# Altium footprint library Relay_THT.PcbLib: 78 footprints (part 4 of 5)
Each footprint in its own frame and in the unit in brackets; x right, y up, seen from the top. Pads: shape width x height; smd on the part's side, far side on the other; paste and mask are expansions set on the pad; w line width, h text height; cw(c..) or ccw(c..) is an arc to the next point about the centre after c.
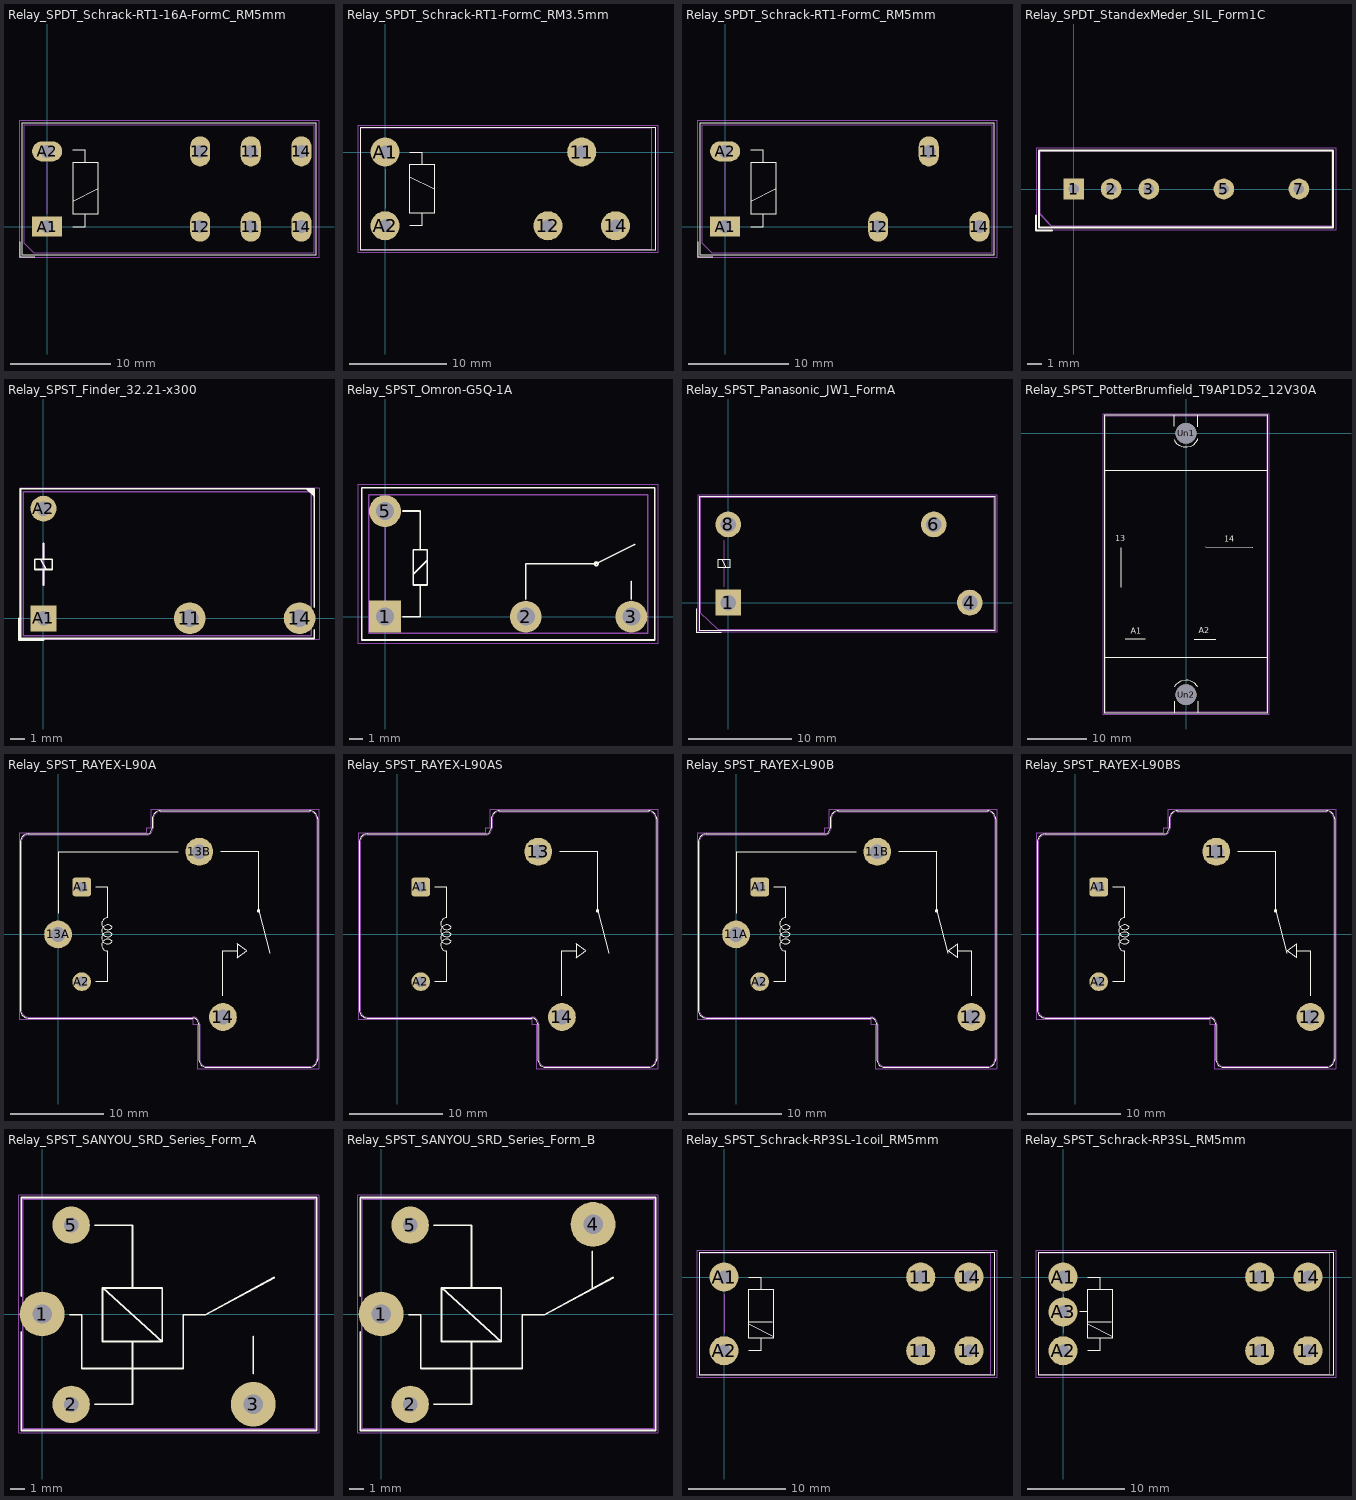
[diagram p3: the footprints below, top view; thin cyan lines are the x and y axes]

## Relay_SPDT_Schrack-RT1-16A-FormC_RM5mm [mm]
pads (8):
  rrect100% 2x3 hole 1.3: 11(20.3,0) 11(20.3,7.5) 12(15.26,0) 12(15.26,7.5) 14(25.34,0) 14(25.34,7.5)
  rect 3x2 hole 1.3: A1(0,0)
  rrect100% 3x2 hole 1.3: A2(0,7.5)
F.SilkS:
  lines w0.1: 2.54,2.54 5.08,3.81
  lines w0.12: -2.75,-1.5 -2.75,-3 -1.25,-3 ; 2.54,0 3.81,0 3.81,1.27 ; 2.54,7.62 3.81,7.62 3.81,6.35 ; 3.81,1.27 5.08,1.27 5.08,6.35 2.54,6.35 2.54,1.27 3.81,1.27 ; -2.55,-2.8 26.85,-2.8 26.85,10.3 -2.55,10.3 -2.55,-2.8
F.CrtYd:
  lines w0.05: -2.8,-3.05 -2.8,10.55 27.1,10.55 27.1,-3.05 -2.8,-3.05
F.Fab:
  lines w0.1: -2.35,-1.6 -1.35,-2.6 26.65,-2.6 26.65,10.1 -2.35,10.1 -2.35,-1.6
  lines w0.12: 0,1.27 0,6.35
  text "'.Designator'" at 8.018,2.97 h1

## Relay_SPDT_Schrack-RT1-FormC_RM3.5mm [mm]
pads (5):
  round 3 hole 1.3: 11(20.32,0) 12(16.82,-7.62) 14(23.82,-7.62) A1(0,0) A2(0,-7.62)
F.SilkS:
  lines w0.12: 2.54,-7.62 3.81,-7.62 3.81,-6.35 ; 2.54,-2.54 5.08,-3.81 ; 2.54,0 3.81,0 3.81,-1.27 ; 3.81,-1.27 2.54,-1.27 2.54,-6.35 5.08,-6.35 5.08,-1.27 3.81,-1.27 ; -2.54,-10.16 27.94,-10.16 27.94,2.54 -2.54,2.54 -2.54,-10.16
F.CrtYd:
  lines w0.05: -2.8,-10.42 28.2,-10.42 28.2,2.78 -2.8,2.78 -2.8,-10.42
F.Fab:
  lines w0.12: 0,-5.8 0,-1.8 ; -2.5,-10.1 -2.5,2.5 27.5,2.5 27.5,-10.1 -2.5,-10.1
  text "'.Designator'" at 8.018,-4.65 h1

## Relay_SPDT_Schrack-RT1-FormC_RM5mm [mm]
pads (5):
  rrect100% 2x3 hole 1.3: 11(20.3,7.5) 12(15.26,0) 14(25.34,0)
  rect 3x2 hole 1.3: A1(0,0)
  rrect100% 3x2 hole 1.3: A2(0,7.5)
F.SilkS:
  lines w0.1: 2.54,2.54 5.08,3.81
  lines w0.12: -2.75,-1.5 -2.75,-3 -1.25,-3 ; 2.54,0 3.81,0 3.81,1.27 ; 2.54,7.62 3.81,7.62 3.81,6.35 ; 3.81,1.27 2.54,1.27 2.54,6.35 5.08,6.35 5.08,1.27 3.81,1.27 ; -2.55,-2.8 26.85,-2.8 26.85,10.3 -2.55,10.3 -2.55,-2.8
F.CrtYd:
  lines w0.05: -2.8,-3.05 27.1,-3.05 27.1,10.55 -2.8,10.55 -2.8,-3.05
F.Fab:
  lines w0.1: -2.35,-1.6 -2.35,10.1 26.65,10.1 26.65,-2.6 -1.35,-2.6 -2.35,-1.6
  lines w0.12: 0,1.27 0,6.35
  text "'.Designator'" at 8.018,2.97 h1

## Relay_SPDT_StandexMeder_SIL_Form1C [mm]
pads (5):
  rect 1.4x1.4 hole 0.7: 1(0,0)
  round 1.4 hole 0.7: 2(2.54,0) 3(5.08,0) 5(10.16,0) 7(15.24,0)
F.SilkS:
  lines w0.12: -2.55,-1.8 -2.55,-2.8 -1.45,-2.8 ; -2.35,-2.6 -2.35,2.6 17.55,2.6 17.55,-2.6 -2.35,-2.6
F.CrtYd:
  lines w0.05: -2.55,-2.8 17.75,-2.8 17.75,2.8 -2.55,2.8 -2.55,-2.8
F.Fab:
  lines w0.12: -2.3,-1.667 -1.5,-2.517 17.5,-2.517 17.5,2.583 -2.3,2.583 -2.3,-1.667
  text "'.Designator'" at 3.703,-0.84 h1

## Relay_SPST_Finder_32.21-x300 [mm]
pads (4):
  round 2.2 hole 1.2: 11(10.16,0) 14(17.78,0)
  rect 1.8x1.8 hole 1: A1(0,0)
  round 1.8 hole 1: A2(0,7.62)
F.SilkS:
  lines w0.12: -1.7,0 -1.7,-1.5 0,-1.5 ; -0.2,4.1 0.2,3.4 ; 0,2.3 0,3.4 ; 0,4.1 0,5.2 ; 18.279,8.996 18.779,8.496 ; 18.379,8.996 18.779,8.596 ; 18.479,8.996 18.779,8.696 ; 18.579,8.996 18.779,8.796 ; 18.679,8.996 18.779,8.896 ; 18.8,-0.8 18.8,-1.4 -1.6,-1.4 -1.6,9 18.8,9 18.8,0.796 ; -0.6,3.4 -0.6,4.1 0.6,4.1 0.6,3.4 -0.6,3.4
F.CrtYd:
  lines w0.05: -1.65,-1.45 -1.65,9.05 19.13,9.05 19.13,-1.45 -1.65,-1.45
F.Fab:
  lines w0.12: 0,2.3 0,5.2 ; -1.4,-1.2 18.6,-1.2 18.6,8.8 -1.4,8.8 -1.4,-1.2
  text "'.Designator'" at 6.153,3.26 h1

## Relay_SPST_Omron-G5Q-1A [mm]
pads (4):
  rect 2.3x2.3 hole 1.3: 1(0,0)
  round 2.3 hole 1.3: 2(10.16,0) 3(17.78,0) 5(0,7.62)
F.SilkS:
  circle w0.12: c15.24,3.81 r0.13
  lines w0.12: 1.27,0 2.54,0 2.54,2.29 ; 1.27,7.62 2.54,7.62 2.54,4.83 ; 2.03,3.05 3.05,4.06 ; 10.16,1.27 10.16,3.81 15.24,3.81 18.03,5.21 ; 17.78,1.27 17.78,2.54 ; 2.54,2.29 2.03,2.29 2.03,4.83 2.54,4.83 ; 2.54,2.29 3.05,2.29 3.05,4.83 2.54,4.83 ; -1.68,-1.69 19.46,-1.69 19.46,9.31 -1.68,9.31 -1.68,-1.69
F.CrtYd:
  lines w0.05: -1.95,-1.95 19.7,-1.95 19.7,9.55 -1.95,9.55 -1.95,-1.95
F.Fab:
  lines w0.1: 0,1 0,6.5 ; -1.18,-1.19 18.96,-1.19 18.96,8.81 -1.18,8.81 -1.18,-1.19
  text "'.Designator'" at 5.553,3.66 h1

## Relay_SPST_Panasonic_JW1_FormA [mm]
pads (4):
  rect 2.5x2.5 hole 1.5: 1(0,0)
  rrect100% 2.5x2.5 hole 1.5: 4(23.5,0) 6(20,7.6) 8(0,7.6)
F.SilkS:
  lines w0.12: -3.04,-0.6 -3.04,-2.94 -0.7,-2.94 ; -0.6,4.15 -0.2,3.45 ; -2.8,-2.7 -2.8,10.3 26,10.3 26,-2.7 -2.8,-2.7 ; -1,3.45 -1,4.15 0.2,4.15 0.2,3.45 -1,3.45
F.CrtYd:
  lines w0.05: -2.95,-2.85 -2.95,10.45 26.15,10.45 26.15,-2.85 -2.95,-2.85
F.Fab:
  lines w0.1: -3.04,-0.6 -3.04,-2.94 -0.7,-2.94 ; -2.7,-1 -2.7,10.2 25.9,10.2 25.9,-2.6 -1,-2.6 ; -0.4,1.55 -0.4,6.05
  lines w0.12: -2.7,-1 -1,-2.6
  text "'.Designator'" at 7.953,2.91 h1

## Relay_SPST_PotterBrumfield_T9AP1D52_12V30A [mm]
pads (2):
  round 3.5 hole 3.5: Un1(0,0) Un2(0,-43.998)
F.SilkS:
  lines w0.12: -13.749,-37.749 13.749,-37.749 ; -13.749,-6.248 13.749,-6.248 ; -11.001,-25.898 -11.001,-19.223 ; -10.201,-34.699 -6.901,-34.674 ; -1.976,-47 -1.976,-45.098 ; -1.976,-42.675 -1.75,-42.324 -1.3,-41.948 -0.851,-41.725 0.076,-41.6 0.376,-41.6 0.8,-41.725 1.45,-42.05 1.826,-42.474 1.976,-42.675 ; -1.976,-1.1 -1.9,-1.374 -1.549,-1.725 -1.125,-2.024 -0.45,-2.248 0.201,-2.273 0.826,-2.174 1.275,-1.923 1.674,-1.524 1.951,-1.123 1.999,-0.95 ; -1.976,1.201 -1.976,3.002 ; 1.425,-34.699 5.001,-34.699 ; 1.951,-45.098 1.976,-46.975 ; 1.976,1.1 1.976,3.002 ; 3.325,-19.2 3.35,-19.2 11.25,-19.223 ; -13.749,-47 13.749,-47 13.749,-21.999 13.749,3.002 -13.749,3.002 -13.749,-47
  text "A1" at -9.291,-33.723 h1
  text "A2" at 2.169,-33.624 h1
  text "14" at 6.452,-18.275 h1
  text "13" at -11.924,-18.173 h1
F.CrtYd:
  lines w0.05: -14,-47.25 -14,3.25 14,3.25 14,-47.25 -14,-47.25
F.Fab:
  lines w0.12: -13.7,-46.9 -13.7,2.9 13.7,2.9 13.7,-46.9 -13.7,-46.9
  text "'.Designator'" at -3.237,-22.671 h0.8

## Relay_SPST_RAYEX-L90A [mm]
pads (5):
  round 3 hole 1.6: 13A(0,0) 13B(15.2,8.9) 14(17.74,-8.9)
  rrect25% 2x2 hole 1.1: A1(2.54,5.1)
  round 2 hole 1.1: A2(2.54,-5.1)
F.SilkS:
  circle w0.12: c21.59,2.54 r0.127
  lines w0.12: 0,2.286 0,8.9 12.954,8.9 ; 4.064,-5.105 5.334,-5.105 5.334,-1.778 cw(c5.334,-1.143) 5.842,-0.762 cw(c5.334,-0.381) 5.842,0 cw(c5.334,0.381) 5.842,0.762 cw(c5.334,1.143) 5.334,1.778 5.334,5.105 4.064,5.105 ; 17.526,8.9 21.59,8.9 21.59,2.54 22.809,-2.032 ; 17.74,-6.604 17.74,-1.778 19.304,-1.778 ; -4.07,-8.14 -4.07,9.94 cw(c-3.2,9.94) -3.2,10.81 9.48,10.81 ccw(c9.48,11.46) 10.13,11.46 10.13,12.44 cw(c11,12.44) 11,13.31 27.08,13.31 cw(c27.08,12.44) 27.95,12.44 27.95,-13.44 cw(c27.08,-13.44) 27.08,-14.31 16,-14.31 cw(c16,-13.44) 15.13,-13.44 15.13,-9.66 ccw(c14.48,-9.66) 14.48,-9.01 -3.2,-9.01 cw(c-3.2,-8.14) -4.07,-8.14 ; 19.304,-2.54 19.304,-1.016 20.32,-1.778 19.304,-2.54
F.CrtYd:
  lines w0.05: -4.21,-9.15 -4.21,10.95 9.48,10.95 9.48,11.46 9.99,11.46 9.99,13.45 28.09,13.45 28.09,-14.45 14.99,-14.45 14.99,-9.66 14.48,-9.66 14.48,-9.15 -4.21,-9.15
F.Fab:
  lines w0.1: -3.96,-8.14 -3.96,9.94 cw(c-3.2,9.94) -3.2,10.7 9.48,10.7 ccw(c9.48,11.46) 10.24,11.46 10.24,12.44 cw(c11,12.44) 11,13.2 27.08,13.2 cw(c27.08,12.44) 27.84,12.44 27.84,-13.44 cw(c27.08,-13.44) 27.08,-14.2 16,-14.2 cw(c16,-13.44) 15.24,-13.44 15.24,-9.66 ccw(c14.48,-9.66) 14.48,-8.9 -3.2,-8.9 cw(c-3.2,-8.14) -3.96,-8.14
  text "'.Designator'" at 8.348,-0.84 h1

## Relay_SPST_RAYEX-L90AS [mm]
pads (4):
  round 3 hole 1.6: 13(15.2,8.9) 14(17.74,-8.9)
  rrect25% 2x2 hole 1.1: A1(2.54,5.1)
  round 2 hole 1.1: A2(2.54,-5.1)
F.SilkS:
  circle w0.12: c21.59,2.54 r0.127
  lines w0.12: 4.064,-5.105 5.334,-5.105 5.334,-1.778 cw(c5.334,-1.143) 5.842,-0.762 cw(c5.334,-0.381) 5.842,0 cw(c5.334,0.381) 5.842,0.762 cw(c5.334,1.143) 5.334,1.778 5.334,5.105 4.064,5.105 ; 17.526,8.9 21.59,8.9 21.59,2.54 22.809,-2.032 ; 17.74,-6.604 17.74,-1.778 19.304,-1.778 ; -4.07,-8.14 -4.07,9.94 cw(c-3.2,9.94) -3.2,10.81 9.48,10.81 ccw(c9.48,11.46) 10.13,11.46 10.13,12.44 cw(c11,12.44) 11,13.31 27.08,13.31 cw(c27.08,12.44) 27.95,12.44 27.95,-13.44 cw(c27.08,-13.44) 27.08,-14.31 16,-14.31 cw(c16,-13.44) 15.13,-13.44 15.13,-9.66 ccw(c14.48,-9.66) 14.48,-9.01 -3.2,-9.01 cw(c-3.2,-8.14) -4.07,-8.14 ; 19.304,-2.54 20.32,-1.778 19.304,-1.016 19.304,-2.54
F.CrtYd:
  lines w0.05: -4.21,-9.15 14.48,-9.15 14.48,-9.66 14.99,-9.66 14.99,-14.45 28.09,-14.45 28.09,13.45 9.99,13.45 9.99,11.46 9.48,11.46 9.48,10.95 -4.21,10.95 -4.21,-9.15
F.Fab:
  lines w0.1: -3.96,-8.14 -3.96,9.94 cw(c-3.2,9.94) -3.2,10.7 9.48,10.7 ccw(c9.48,11.46) 10.24,11.46 10.24,12.44 cw(c11,12.44) 11,13.2 27.08,13.2 cw(c27.08,12.44) 27.84,12.44 27.84,-13.44 cw(c27.08,-13.44) 27.08,-14.2 16,-14.2 cw(c16,-13.44) 15.24,-13.44 15.24,-9.66 ccw(c14.48,-9.66) 14.48,-8.9 -3.2,-8.9 cw(c-3.2,-8.14) -3.96,-8.14
  text "'.Designator'" at 8.348,-0.84 h1

## Relay_SPST_RAYEX-L90B [mm]
pads (5):
  round 3 hole 1.6: 11A(0,0) 11B(15.2,8.9) 12(25.34,-8.9)
  rrect25% 2x2 hole 1.1: A1(2.54,5.1)
  round 2 hole 1.1: A2(2.54,-5.1)
F.SilkS:
  circle w0.12: c21.59,2.54 r0.127
  lines w0.12: 0,2.286 0,8.9 12.954,8.9 ; 4.064,-5.105 5.334,-5.105 5.334,-1.778 cw(c5.334,-1.143) 5.842,-0.762 cw(c5.334,-0.381) 5.842,0 cw(c5.334,0.381) 5.842,0.762 cw(c5.334,1.143) 5.334,1.778 5.334,5.105 4.064,5.105 ; 17.526,8.9 21.59,8.9 21.59,2.54 22.809,-2.032 ; 23.876,-1.778 25.34,-1.778 25.34,-6.604 ; -4.07,-8.14 -4.07,9.94 cw(c-3.2,9.94) -3.2,10.81 9.48,10.81 ccw(c9.48,11.46) 10.13,11.46 10.13,12.44 cw(c11,12.44) 11,13.31 27.08,13.31 cw(c27.08,12.44) 27.95,12.44 27.95,-13.44 cw(c27.08,-13.44) 27.08,-14.31 16,-14.31 cw(c16,-13.44) 15.13,-13.44 15.13,-9.66 ccw(c14.48,-9.66) 14.48,-9.01 -3.2,-9.01 cw(c-3.2,-8.14) -4.07,-8.14 ; 22.86,-1.778 23.876,-1.016 23.876,-2.54 22.86,-1.778
F.CrtYd:
  lines w0.05: -4.21,-9.15 14.48,-9.15 14.48,-9.66 14.99,-9.66 14.99,-14.45 28.09,-14.45 28.09,13.45 9.99,13.45 9.99,11.46 9.48,11.46 9.48,10.95 -4.21,10.95 -4.21,-9.15
F.Fab:
  lines w0.1: -3.96,-8.14 -3.96,9.94 cw(c-3.2,9.94) -3.2,10.7 9.48,10.7 ccw(c9.48,11.46) 10.24,11.46 10.24,12.44 cw(c11,12.44) 11,13.2 27.08,13.2 cw(c27.08,12.44) 27.84,12.44 27.84,-13.44 cw(c27.08,-13.44) 27.08,-14.2 16,-14.2 cw(c16,-13.44) 15.24,-13.44 15.24,-9.66 ccw(c14.48,-9.66) 14.48,-8.9 -3.2,-8.9 cw(c-3.2,-8.14) -3.96,-8.14
  text "'.Designator'" at 8.348,-0.84 h1

## Relay_SPST_RAYEX-L90BS [mm]
pads (4):
  round 3 hole 1.6: 11(15.2,8.9) 12(25.34,-8.9)
  rrect25% 2x2 hole 1.1: A1(2.54,5.1)
  round 2 hole 1.1: A2(2.54,-5.1)
F.SilkS:
  circle w0.12: c21.59,2.54 r0.127
  lines w0.12: 4.064,-5.105 5.334,-5.105 5.334,-1.778 cw(c5.334,-1.143) 5.842,-0.762 cw(c5.334,-0.381) 5.842,0 cw(c5.334,0.381) 5.842,0.762 cw(c5.334,1.143) 5.334,1.778 5.334,5.105 4.064,5.105 ; 17.526,8.9 21.59,8.9 21.59,2.54 22.809,-2.032 ; 23.876,-1.778 25.34,-1.778 25.34,-6.604 ; -4.07,-8.14 -4.07,9.94 cw(c-3.2,9.94) -3.2,10.81 9.48,10.81 ccw(c9.48,11.46) 10.13,11.46 10.13,12.44 cw(c11,12.44) 11,13.31 27.08,13.31 cw(c27.08,12.44) 27.95,12.44 27.95,-13.44 cw(c27.08,-13.44) 27.08,-14.31 16,-14.31 cw(c16,-13.44) 15.13,-13.44 15.13,-9.66 ccw(c14.48,-9.66) 14.48,-9.01 -3.2,-9.01 cw(c-3.2,-8.14) -4.07,-8.14 ; 22.86,-1.778 23.876,-2.54 23.876,-1.016 22.86,-1.778
F.CrtYd:
  lines w0.05: -4.21,-9.15 14.48,-9.15 14.48,-9.66 14.99,-9.66 14.99,-14.45 28.09,-14.45 28.09,13.45 9.99,13.45 9.99,11.46 9.48,11.46 9.48,10.95 -4.21,10.95 -4.21,-9.15
F.Fab:
  lines w0.1: -3.96,-8.14 -3.96,9.94 cw(c-3.2,9.94) -3.2,10.7 9.48,10.7 ccw(c9.48,11.46) 10.24,11.46 10.24,12.44 cw(c11,12.44) 11,13.2 27.08,13.2 cw(c27.08,12.44) 27.84,12.44 27.84,-13.44 cw(c27.08,-13.44) 27.08,-14.2 16,-14.2 cw(c16,-13.44) 15.24,-13.44 15.24,-9.66 ccw(c14.48,-9.66) 14.48,-8.9 -3.2,-8.9 cw(c-3.2,-8.14) -3.96,-8.14
  text "'.Designator'" at 8.348,-0.84 h1

## Relay_SPST_SANYOU_SRD_Series_Form_A [mm]
pads (4):
  round 3 hole 1.3: 1(0,0) 3(14.15,-6.05)
  round 2.5 hole 1: 2(1.95,-6.05) 5(1.95,5.95)
F.SilkS:
  lines w0.12: -1.4,-1.2 -1.4,-7.8 18.4,-7.8 18.4,7.8 -1.4,7.8 -1.4,1.2 ; 1.85,-0.05 2.65,-0.05 2.65,-3.65 9.45,-3.65 9.45,-0.05 10.95,-0.05 15.55,2.45 ; 3.55,-6.05 6.05,-6.05 6.05,-1.85 ; 3.55,5.95 6.05,5.95 6.05,1.75 ; 14.15,-4 14.15,-1.5 ; 4.05,1.75 4.05,-1.85 8.05,-1.85 ; 4.05,1.75 8.05,1.75 8.05,-1.85 ; 4.05,1.75 8.05,-1.85
F.CrtYd:
  lines w0.05: -1.55,-7.95 18.55,-7.95 18.55,7.95 -1.55,7.95 -1.55,-7.95
F.Fab:
  lines w0.12: -1.3,-7.7 -1.3,7.7 18.3,7.7 18.3,-7.7 -1.3,-7.7
  text "1" at -0.269,1.65 h1
  text "'.Designator'" at 3.053,-0.865 h1

## Relay_SPST_SANYOU_SRD_Series_Form_B [mm]
pads (4):
  round 3 hole 1.3: 1(0,0) 4(14.2,6)
  round 2.5 hole 1: 2(1.95,-6.05) 5(1.95,5.95)
F.SilkS:
  lines w0.12: -1.4,-1.2 -1.4,-7.8 18.4,-7.8 18.4,7.8 -1.4,7.8 -1.4,1.2 ; 1.85,-0.05 2.65,-0.05 2.65,-3.65 9.45,-3.65 9.45,-0.05 10.95,-0.05 15.55,2.45 ; 3.55,-6.05 6.05,-6.05 6.05,-1.85 ; 3.55,5.95 6.05,5.95 6.05,1.75 ; 14.15,1.7 14.15,4.2 ; 4.05,1.75 4.05,-1.85 8.05,-1.85 ; 4.05,1.75 8.05,1.75 8.05,-1.85 ; 4.05,1.75 8.05,-1.85
F.CrtYd:
  lines w0.05: -1.55,-7.95 -1.55,7.95 18.55,7.95 18.55,-7.95 -1.55,-7.95
F.Fab:
  lines w0.12: -1.3,-7.7 -1.3,7.7 18.3,7.7 18.3,-7.7 -1.3,-7.7
  text "'.Designator'" at 3.053,-0.865 h1
  text "1" at -0.269,1.65 h1

## Relay_SPST_Schrack-RP3SL-1coil_RM5mm [mm]
pads (6):
  round 3 hole 1.3: 11(20.32,-7.62) 11(20.32,0) 14(25.32,-7.62) 14(25.32,0) A1(0,0) A2(0,-7.62)
F.SilkS:
  lines w0.12: 2.54,-7.62 3.81,-7.62 3.81,-6.35 ; 2.54,-4.84 5.08,-6.11 ; 2.54,0 3.81,0 3.81,-1.27 ; 2.6,-4.6 5,-4.6 ; 3.81,-1.27 2.54,-1.27 2.54,-6.35 5.08,-6.35 5.08,-1.27 3.81,-1.27 ; -2.54,-10.16 27.94,-10.16 27.94,2.54 -2.54,2.54 -2.54,-10.16
F.CrtYd:
  lines w0.05: -2.8,-10.42 28.2,-10.42 28.2,2.78 -2.8,2.78 -2.8,-10.42
F.Fab:
  lines w0.12: 0,-5.8 0,-1.8 ; -2.5,-10.1 27.5,-10.1 27.5,2.5 -2.5,2.5 -2.5,-10.1
  text "'.Designator'" at 8.018,-4.65 h1

## Relay_SPST_Schrack-RP3SL_RM5mm [mm]
pads (7):
  round 3 hole 1.3: 11(20.32,-7.62) 11(20.32,0) 14(25.32,-7.62) 14(25.32,0) A1(0,0) A2(0,-7.62) A3(0,-3.6)
F.SilkS:
  lines w0.12: 1.7,-3.6 2.5,-3.6 ; 2.54,-7.62 3.81,-7.62 3.81,-6.35 ; 2.54,-4.84 5.08,-6.11 ; 2.54,0 3.81,0 3.81,-1.27 ; 2.6,-4.6 5,-4.6 ; 3.81,-1.27 2.54,-1.27 2.54,-6.35 5.08,-6.35 5.08,-1.27 3.81,-1.27 ; -2.54,-10.16 -2.54,2.54 27.94,2.54 27.94,-10.16 -2.54,-10.16
F.CrtYd:
  lines w0.05: -2.8,-10.42 28.2,-10.42 28.2,2.78 -2.8,2.78 -2.8,-10.42
F.Fab:
  lines w0.12: 0,-5.8 0,-1.8 ; -2.5,-10.1 -2.5,2.5 27.5,2.5 27.5,-10.1 -2.5,-10.1
  text "'.Designator'" at 8.018,-4.65 h1